# EAGLE library part USBLC6-2SC6 (library USBLC6-2SC6)
TVS Diode Array Uni-Directional USBLC6-2SC6 17V, SOT-23 6-Pin Source: Datasheet <http://www.st.com/st-web-ui/static/active/en/resource/technical/document/datasheet/CD00050750.pdf>
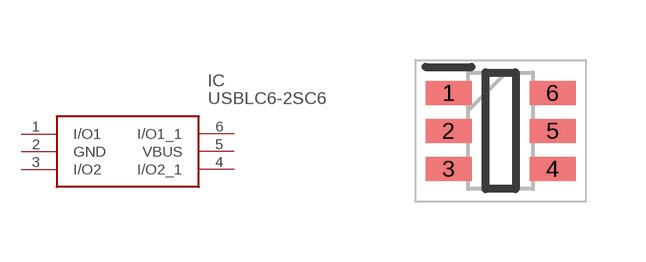
[diagram p0: symbol with the pads of SOT95P280X145-6N; footprint SOT95P280X145-6N]

Designator prefix IC

## USBLC6-2SC6 (Allied_Number: 70389689; Allied_Price-Stock: http://www.alliedelec.com/stmicroelectronics-usblc6-2sc6/70389689/; Description: TVS Diode Array Uni-Directional USBLC6-2SC6 17V, SOT-23 6-Pin; Height: 1.45mm; Manufacturer_Name: STMicroelectronics; Manufacturer_Part_Number: USBLC6-2SC6; Mouser_Part_Number: 511-USBLC6-2SC6; Mouser_Price-Stock: https://www.mouser.com/Search/Refine.aspx?Keyword=511-USBLC6-2SC6; RS_Part_Number: 6247693P; RS_Price-Stock: http://uk.rs-online.com/web/p/products/6247693P)  [SOT95P280X145-6N]
1  I/O1
2  GND  pwr
3  I/O2
4  I/O2_1
5  VBUS
6  I/O1_1

## Footprint SOT95P280X145-6N (pad centres in mm)
SOT23-6L
smd 1.15 x 0.6: 1 -1.3,0.95; 2 -1.3,0; 3 -1.3,-0.95; 4 1.3,-0.95; 5 1.3,0; 6 1.3,0.95